# EAGLE library part ISD1600 (library 1AA_Stofer)
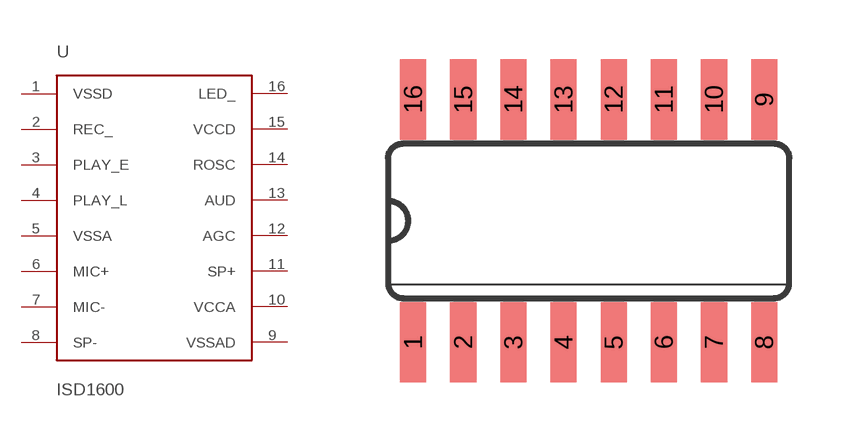
[diagram p28: symbol with the pads of SO16; footprint SO16]

Designator prefix -

## ISD1600  [SO16]
1  VSSD
2  REC_
3  PLAY_E
4  PLAY_L
5  VSSA
6  MIC+
7  MIC-
8  SP-
9  VSSAD
10  VCCA
11  SP+
12  AGC
13  AUD
14  ROSC
15  VCCD
16  LED_

## Footprint SO16 (pad centres in mm)
Small Outline Package
smd 0.66 x 2.032: 1 0.635,-1.803; 2 1.905,-1.803; 3 3.175,-1.803; 4 4.445,-1.803; 5 5.715,-1.803; 6 6.985,-1.803; 7 8.255,-1.803; 8 9.525,-1.803; 9 9.525,4.343; 10 8.255,4.343; 11 6.985,4.343; 12 5.715,4.343; 13 4.445,4.343; 14 3.175,4.343; 15 1.905,4.343; 16 0.635,4.343